# EAGLE library part AD5696R (library jason_eagle6)
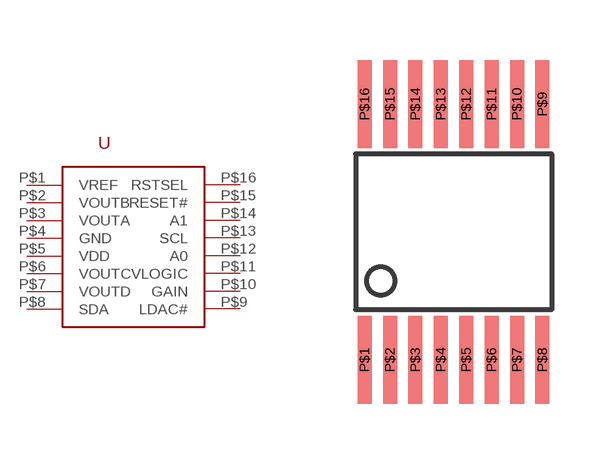
[diagram p6: symbol with the pads of SSOP16; footprint SSOP16]

Designator prefix -

## AD5696R  [SSOP16]
P$1  VREF
P$2  VOUTB
P$3  VOUTA
P$4  GND  pwr
P$5  VDD  pwr
P$6  VOUTC
P$7  VOUTD
P$8  SDA
P$9  LDAC#
P$10  GAIN
P$11  VLOGIC  pwr
P$12  A0
P$13  SCL
P$14  A1
P$15  RESET#
P$16  RSTSEL

## Footprint SSOP16 (pad centres in mm)
smd 0.35 x 2.2: P$1 -2.223,-3.2; P$2 -1.587,-3.2; P$3 -0.953,-3.2; P$4 -0.318,-3.2; P$5 0.318,-3.2; P$6 0.953,-3.2; P$7 1.587,-3.2; P$8 2.223,-3.2; P$9 2.223,3.2; P$10 1.587,3.2; P$11 0.953,3.2; P$12 0.318,3.2; P$13 -0.318,3.2; P$14 -0.953,3.2; P$15 -1.587,3.2; P$16 -2.223,3.2